# Altium schematic symbol library HF49FDxx.SchLib: 1 symbol
Pins are listed as number, name and electrical type; pins without a type are passive.

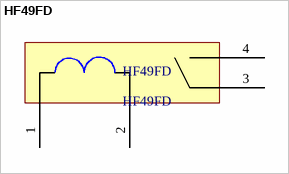
[diagram p0: symbol HF49FD]

## HF49FD
designator HF49FD
footprint HF49FD
pins: 1, 2, 3, 4